# Altium footprint library Misc.PcbLib: 133 footprints (part 2 of 9)
Each footprint in its own frame and in the unit in brackets; x right, y up, seen from the top. Pads: shape width x height; smd on the part's side, far side on the other; paste and mask are expansions set on the pad; w line width, h text height; cw(c..) or ccw(c..) is an arc to the next point about the centre after c.
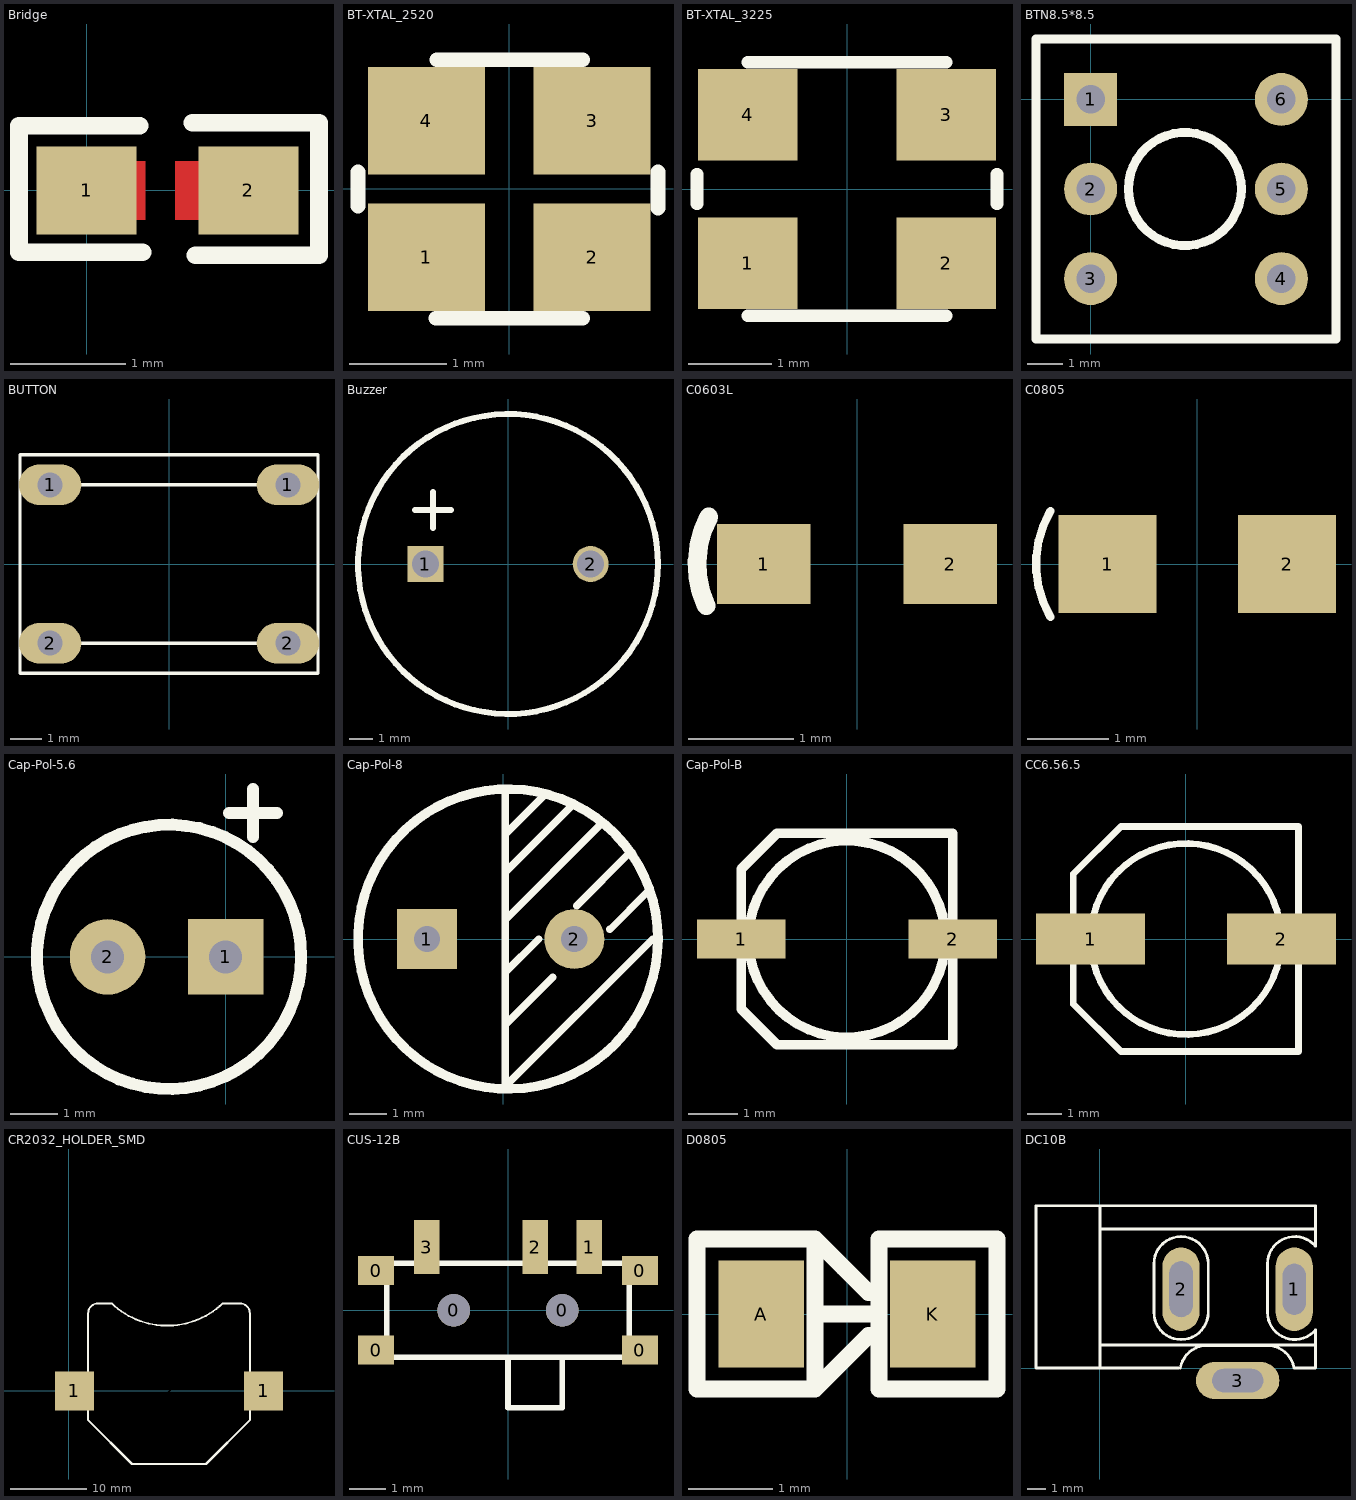
[diagram p1: the footprints below, top view; thin cyan lines are the x and y axes]

## Bridge [mil]
height 200
pads (2):
  rect 33.94x30 smd: 1(0,0) 2(55,0)
Top Layer:
  rectangle: 10,-10 20,10
  rectangle: 30,-10 45,10
Top Overlay:
  lines w6: 18,22 -23,22 -23,-21 19,-21 ; 36,23 79,23 79,-22 37,-22

## BT-XTAL_2520 [mm] "TSX-2520"
height 1
pads (4):
  rect 1.2x1.1 smd: 1(-0.85,-0.7) 2(0.85,-0.7) 3(0.85,0.7) 4(-0.85,0.7)
Top Overlay:
  lines w0.152: -1.55,-0.175 -1.55,0.175 ; -0.75,-1.325 0.75,-1.325 ; -0.74,1.325 0.75,1.325 ; 1.525,-0.195 1.525,0.175
3D body: height 0.56, standoff 0, extent -1.25,-1 1.27,1
3D body: height 0.56, standoff 0.15, extent -1.05,-0.8 1.05,0.8

## BT-XTAL_3225 [mm] "Mercury X32 series"
height 1
pads (4):
  rect 1.2x1.1 smd: 1(-1.194,-0.89) 2(1.194,-0.89) 3(1.194,0.891) 4(-1.194,0.891)
Top Overlay:
  lines w0.152: -1.803,-0.178 -1.803,0.178 ; -1.194,-1.524 1.194,-1.524 ; -1.194,1.524 1.194,1.524 ; 1.803,-0.178 1.803,0.178
3D body: height 0.81, standoff 0, extent -1.6,-1.25 1.614,1.25
3D body: height 0.81, standoff 0.15, extent -1.4,-1.05 1.4,1.05

## BTN8.5*8.5 [mm]
pads (6):
  rect 1.5x1.5 hole 0.8: 1(0,0)
  round 1.5 hole 0.8: 2(0,-2.54) 3(0,-5.08) 4(5.4,-5.08) 5(5.4,-2.54) 6(5.4,0)
Top Overlay:
  circle w0.254: c2.667,-2.54 r1.6
  lines w0.254: -1.55,-6.79 -1.55,1.71 6.95,1.71 6.95,-6.79 -1.55,-6.79

## BUTTON [mm]
pads (4):
  oval 2x1.3 hole 0.8: 1(-3.81,2.54) 1(3.81,2.54) 2(-3.81,-2.54) 2(3.81,-2.54)
Top Overlay:
  lines w0.1: -3.048,-2.54 3.048,-2.54 ; -3.048,2.54 3.048,2.54 ; -4.772,-3.502 -4.772,3.502 4.772,3.502 4.772,-3.502 -4.772,-3.502

## Buzzer [mil]
pads (2):
  rect 60x60 hole 45: 1(-137.8,0)
  round 60 hole 45: 2(137.8,0)
Top Overlay:
  circle w10: c0,0 r250
  lines w10: -155,90 -95,90 ; -125,60 -125,120

## C0603L [mil]
height 153.54
pads (2):
  rect 35x30 smd: 1(-35,0) 2(35,0)
Top Overlay:
  lines w7: -56.55,-15.71 cw(c-22.5,0) -55.59,17.65
3D body: height 23.62, standoff 0, extent -31,-16 31.99,15.5

## C0805 [mm]
pads (2):
  rect 1.2x1.2 smd: 1(-1.1,0) 2(1.1,0)
Top Overlay:
  lines w0.1: -1.801,-0.648 cw(c-0.7,0) -1.801,0.648
3D body: height 1.2, standoff 0, extent -0.991,-0.61 1.009,0.59

## Cap-Pol-5.6 [mm]
pads (2):
  rect 1.6x1.6 hole 0.7: 1(0,0)
  round 1.6 hole 0.7: 2(-2.5,0)
Top Overlay:
  circle w0.254: c-1.2,0 r2.8
  lines w0.254: 0.07,3.048 1.086,3.048 ; 0.578,2.54 0.578,3.556
3D body: height 7.3, standoff -1.2, extent -3.683,-2.496 1.315,2.496

## Cap-Pol-8 [mm]
pads (2):
  rect 1.6x1.6 hole 0.7: 1(-2.032,0)
  round 1.6 hole 0.7: 2(1.905,0)
Top Overlay:
  circle w0.254: c0.134,0 r4.007
  lines w0.2: 0.064,-2.413 0.064,-2.286 1.333,-1.016 ; 0.064,-0.889 0.953,0 ; 0.064,0.508 2.603,3.048 ; 0.064,1.651 0.064,1.778 1.841,3.556 ; 0.064,2.54 0.064,2.794 1.079,3.81 ; 0.064,3.937 0.064,-3.937 4,0 4.141,0 ; 1.968,0.889 3.365,2.286 ; 2.857,0.254 3.873,1.27

## Cap-Pol-B [mm]
height 5.5
pads (2):
  rect 1.8x0.8 smd: 1(-2.15,0) 2(2.15,0)
Top Overlay:
  circle w0.2: c0,0 r2
  lines w0.2: -1.433,-2.139 -2.15,-1.422 ; -1.433,2.139 -2.15,1.422 ; -2.15,-1.422 -2.15,1.422 ; -2.15,-1.422 -1.422,-2.15 2.15,-2.15 2.15,2.15 -1.422,2.15 -2.15,1.422
3D body: height 5.2, standoff 0, extent -2.286,-2.159 2.314,2.141

## CC6.56.5 [mm]
pads (2):
  rect 3.2x1.5 smd: 1(-2.794,0) 2(2.8,0)
Top Overlay:
  circle w0.2: c0,0 r2.8
  lines w0.2: -3.302,-1.905 -3.302,1.905 -1.905,3.302 3.302,3.302 3.302,-3.302 -1.905,-3.302 -3.302,-1.905

## CR2032_HOLDER_SMD [mm] "CR2032 - SMD mount coin cell bat holder"
height 3
pads (3):
  rect 5.08x5.08 smd: 1(0.731,0) 1(25.431,0)
  round 18 on Top Solder paste+0: 2(13.081,0)
Top Overlay:
  lines w0.254: 8.636,-9.525 17.907,-9.525 23.622,-3.81 23.622,10.16 ccw(c22.352,10.16) 22.352,11.43 20.066,11.43 ; 8.89,-9.525 8.255,-9.525 2.54,-3.81 2.54,10.16 cw(c3.81,10.16) 3.81,11.43 5.588,11.43 ccw(c12.848,19.072) 20.108,11.43
3D body: height 3.96, standoff 0, extent -2.286,-10.274 28.448,9.779

## CUS-12B [mm] "Slide Switches - SPDT, SMD, ON-ON"
height 1.4
pads (9):
  rect 1x0.8 smd: 0(-3.65,-1.1) 0(-3.65,1.1) 0(3.65,-1.1) 0(3.65,1.1)
  round 0.9 hole 0.9: 0(-1.5,0) 0(1.5,0)
  rect 0.7x1.5 smd: 1(2.25,1.75) 2(0.75,1.75) 3(-2.25,1.75)
Top Overlay:
  lines w0.152: 0,-1.3 0,-2.7 1.5,-2.7 1.5,-1.3 ; -3.35,-1.3 -3.35,1.3 3.35,1.3 3.35,-1.3 -3.35,-1.3
3D body: height 1.4, standoff 1.2, extent -3.15,0.9 -2.75,1.4
3D body: height 0.65, standoff 0, extent -3.35,0.9 -3.15,1.3
3D body: height 1.3, standoff 0.7, extent -3.3,0.9 -3.15,1.4
3D body: height 1.4, standoff 1.2, extent -3.15,-1.3 -2.75,-0.8
3D body: height 0.65, standoff 0, extent -3.35,-1.3 -3.15,-0.9
3D body: height 1.3, standoff 0.7, extent -3.3,-1.3 -3.15,-0.8
3D body: height 1.4, standoff 1.2, extent 2.75,-1.4 3.15,-0.9
3D body: height 0.65, standoff 0, extent 3.15,-1.3 3.35,-0.9
3D body: height 1.3, standoff 0.7, extent 3.15,-1.4 3.3,-0.9
3D body: height 1.3, standoff 0.7, extent 3.15,0.8 3.3,1.3
3D body: height 1, standoff 0.65, extent -3.35,-0.75 -3.15,0.75
3D body: height 1.4, standoff 0.6, extent -3.35,-0.75 -2.553,0.75
3D body: height 0.65, standoff 0.2, extent 3.15,-0.9 3.35,0.9
3D body: height 1.4, standoff 0.6, extent 2.553,-0.75 3.35,0.75
3D body: height 0.65, standoff 0.2, extent -3.35,-0.9 -3.15,0.9
3D body: height 1, standoff 0.65, extent 3.15,-0.75 3.35,0.75
3D body: height 0.2, standoff 0, extent -3.85,0.9 -3.35,1.3
3D body: height 0.2, standoff 0, extent -3.85,-1.3 -3.35,-0.9
3D body: height 0.2, standoff 0, extent 3.35,-1.3 3.85,-0.9
3D body: height 0.2, standoff 0, extent 3.35,0.9 3.85,1.3
3D body: height 0.65, standoff 0, extent -3.35,0.9 -3.15,1.3
3D body: height 0.65, standoff 0, extent -3.35,-1.3 -3.15,-0.9
3D body: height 0.65, standoff 0, extent 3.15,-1.3 3.35,-0.9
3D body: height 0.65, standoff 0, extent 3.15,0.9 3.35,1.3
3D body: height 1.4, standoff 1.2, extent 2.75,0.8 3.15,1.3
3D body: height 0.15, standoff -0.65, extent -1.9,-0.399 -1.103,0.399
3D body: height 0.15, standoff -0.65, extent 1.1,-0.399 1.897,0.399
3D body: height 1.2, standoff 0.8, extent -1.95,-1 1.95,-0.9
3D body: height 1.2, standoff 0.8, extent 0,-2.75 1.5,-1
3D body: height 1.2, standoff 0.8, extent -3.15,-1.3 3.15,1.3
3D body: height 0.15, standoff 0, extent 2.05,1.3 2.45,2.2
3D body: height 0.15, standoff 0, extent 0.55,1.3 0.95,2.2
3D body: height 1.4, standoff 1.2, extent -2.95,-1.3 2.95,1.3
3D body: height 0.15, standoff 0, extent -2.45,1.3 -2.05,2.2
3D body: height 0.8, standoff 0, extent -3.15,-1.3 3.15,1.3

## D0805 [mil]
height 153.54
pads (2):
  rect 40x50 smd: A(-40,0) K(40,0)
Top Overlay:
  lines w7.87: -15,0 10,0 ; -8.91,28.91 -8.48,28.48 ; -1.93,21.93 -1.81,21.81 ; 10,-10 -15,-35 ; 10,10 -15,35 ; 15,-10 15,5 15,0 ; -15,-35 -70,-35 -70,35 -15,35 ; -15,-35 -15,35 ; 15,-35 70,-35 70,35 15,35 15,-35
3D body: height 33.45, standoff 0.23, extent -40.2,-16.84 40.99,18.84

## DC10B [mil]
pads (3):
  oval 80x180 hole 50 slot 110 at 90 deg: 1(419.09,170)
  oval 80x180 hole 50 slot 120 at 90 deg: 2(175,170)
  oval 180x80 hole 50 slot 110 at 0 deg: 3(297.05,-26.85)
Top Overlay:
  lines w6: 0,50 465,50 ; 0,300 460.13,300 464.25,300 ; 5,350 -15,350 -137.8,350 -137.8,0 0,0 ; 169,0 0,0 ; 173.37,0.16 cw(c231,-10) 231,48.52 361,48.52 cw(c361,-10) 418.63,0.16 ; 420,0 465,0 465,80 ; 464.83,82.38 cw(c420,120) 361.48,120 361.48,225 cw(c420,225) 464.83,262.62 465,350 0,350 0,0 ; 233.52,225 ccw(c175,225) 116.48,225 116.48,120 ccw(c175,120) 233.52,120 233.52,225 ; 233.52,225 233.52,225